# Altium footprint library SMD Inductors.PcbLib: 8 footprints
Each footprint in its own frame and in the unit in brackets; x right, y up, seen from the top. Pads: shape width x height; smd on the part's side, far side on the other; paste and mask are expansions set on the pad; w line width, h text height; cw(c..) or ccw(c..) is an arc to the next point about the centre after c.
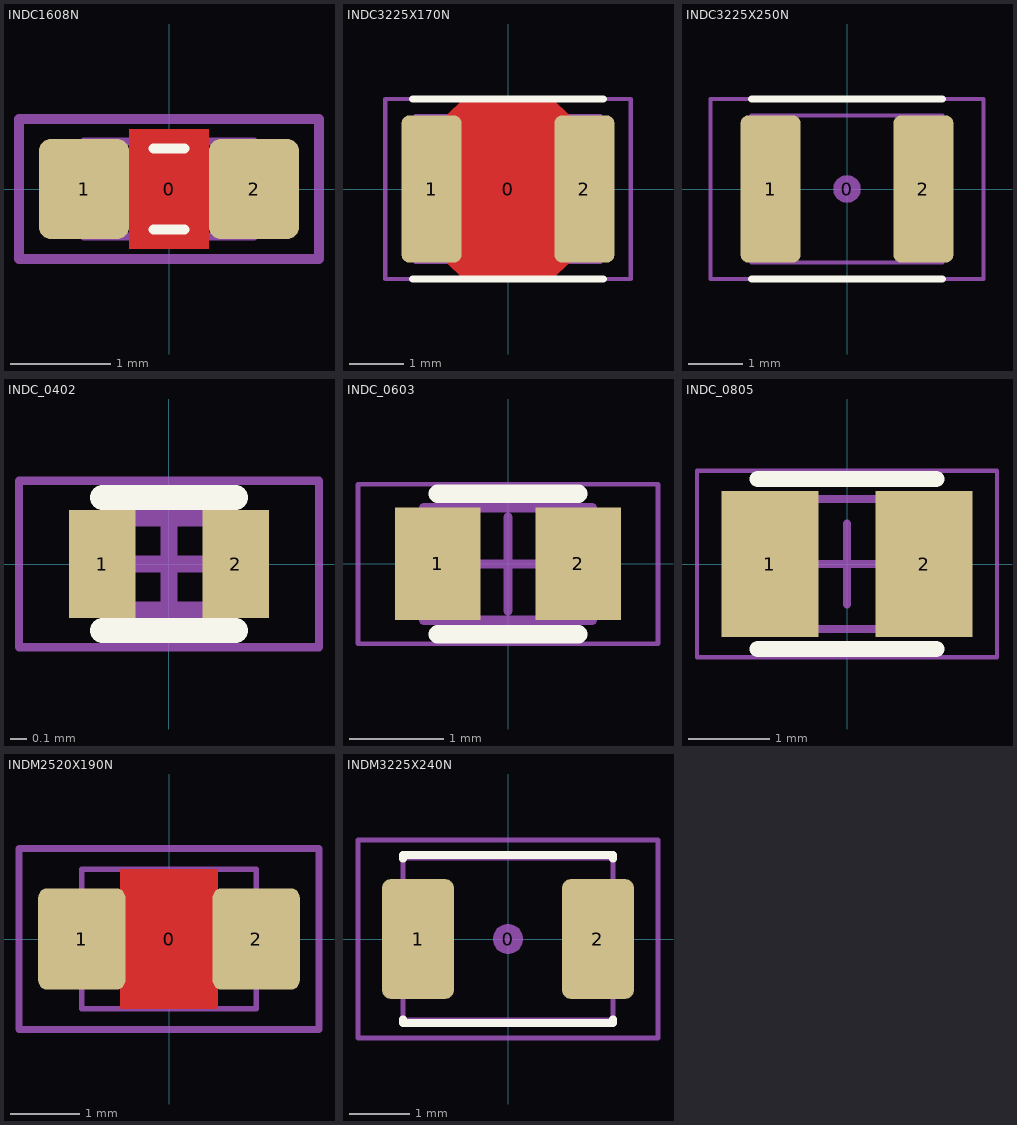
[diagram p0: the footprints below, top view; thin cyan lines are the x and y axes]

## INDC1608N [mm] "Chip bead, Body 1.6x0.8mm, 0603, IPC Medium Density"
height 0.8
pads (3):
  round 0.254 on Mech15: 0(0,0)
  rrect25% 0.9x1 smd: 1(-0.85,0) 2(0.85,0)
Top Layer:
  pour cut-out: -0.4,0.6 0.4,0.6 0.4,-0.6 -0.4,-0.6
Top Overlay:
  lines w0.102: -0.152,-0.406 0.152,-0.406 ; -0.152,0.406 0.152,0.406
Mechanical 13:
  lines w0.076: -0.85,-0.475 0.85,-0.475 0.85,0.475 -0.85,0.475 -0.85,-0.475
Mechanical 15:
  lines w0.1: -1.5,-0.7 1.5,-0.7 1.5,0.7 -1.5,0.7 -1.5,-0.7
3D body "INDC1608X80N.step": height 0.79, standoff -0.01, extent -0.8,-0.4 0.8,0.4

## INDC3225X170N [mm] "Chip Inductor, 2-Leads, Body 3.2x2.5mm, IPC Medium Density"
height 1.7
pads (3):
  round 0.508 on Mech15: 0(0,0)
  rrect25% 1.1x2.7 smd: 1(-1.4,0) 2(1.4,0)
Top Layer:
  pour cut-out: -1.125,1.35 -0.825,1.65 0.825,1.65 1.125,1.35 1.125,-1.35 0.825,-1.65 -0.825,-1.65 -1.125,-1.35
Top Overlay:
  lines w0.127: -1.75,-1.651 1.75,-1.651 ; -1.75,1.651 1.75,1.651
Mechanical 13:
  lines w0.05: -1.7,-1.35 1.7,-1.35 1.7,1.35 -1.7,1.35 -1.7,-1.35
Mechanical 15:
  lines w0.076: -2.25,-1.65 -2.25,1.65 2.25,1.65 2.25,-1.65 -2.25,-1.65
3D body "INDC3225X170N.STEP": height 1.7, standoff 0, extent -1.71,-1.36 1.71,1.36

## INDC3225X250N [mm] "Chip Inductor, 2-Leads, Body 3.2x2.5mm, IPC Medium Density"
height 2.7
pads (3):
  round 0.508 on Mech15: 0(0,0)
  rrect25% 1.1x2.7 smd: 1(-1.4,0) 2(1.4,0)
Top Overlay:
  lines w0.127: -1.75,-1.651 1.75,-1.651 ; -1.75,1.651 1.75,1.651
Mechanical 13:
  lines w0.076: -1.75,-1.35 -1.75,1.35 1.75,1.35 1.75,-1.35 -1.75,-1.35
Mechanical 15:
  lines w0.076: -2.5,-1.65 -2.5,1.65 2.5,1.65 2.5,-1.65 -2.5,-1.65
3D body "INDC3225X250N.STEP": height 2.7, standoff 0, extent -1.7,-1.35 1.7,1.35

## INDC_0402 [mm] "Chip Inductor, 2-Leads, Body 1,00x0,55mm, IPC Medium Density"
height 0.6
pads (2):
  rect 0.4x0.65 smd: 1(-0.4,0) 2(0.4,0)
Top Overlay:
  lines w0.15: -0.4,-0.4 0.4,-0.4 ; -0.4,0.4 0.4,0.4
Mechanical 13:
  lines w0.1: -0.5,-0.275 -0.5,0.275 0.5,0.275 0.5,-0.275 -0.5,-0.275
Mechanical 15:
  lines w0.05: -0.9,-0.5 -0.9,0.5 0.9,0.5 0.9,-0.5 -0.9,-0.5
  lines w0.1: -0.275,0 0.275,0 ; 0,-0.275 0,0.275
3D body "Coilcraft-0402ME.step": height 0.51, standoff -0.01, extent -0.51,-0.381 0.51,0.381

## INDC_0603 [mm] "Chip Inductor, 2-Leads, Body 1,60x1,00mm, IPC Medium Density"
height 1
pads (2):
  rect 0.91x1.2 smd: 1(-0.75,0) 2(0.75,0)
Top Overlay:
  lines w0.2: -0.75,-0.75 0.75,-0.75 ; -0.75,0.75 0.75,0.75
Mechanical 13:
  lines w0.1: -0.9,-0.6 0.9,-0.6 0.9,0.6 -0.9,0.6 -0.9,-0.6
Mechanical 15:
  lines w0.05: -1.6,-0.85 1.6,-0.85 1.6,0.85 -1.6,0.85 -1.6,-0.85
  lines w0.1: -0.5,0 0.5,0 ; 0,-0.5 0,0.5
3D body "Coilcraft-0603ME.step": height 0.83, standoff -0.01, extent -0.9,-0.589 0.9,0.589

## INDC_0805 [mm] "Chip Inductor, 2-Leads, Body 2,15x1,50mm, IPC Medium Density"
height 1.3
pads (2):
  rect 1.2x1.8 smd: 1(-0.95,0) 2(0.95,0)
Top Overlay:
  lines w0.2: -1.1,-1.05 1.1,-1.05 ; -1.1,1.05 1.1,1.05
Mechanical 13:
  lines w0.1: -1.15,-0.8 1.15,-0.8 1.15,0.8 -1.15,0.8 -1.15,-0.8
Mechanical 15:
  lines w0.05: -1.85,-1.15 1.85,-1.15 1.85,1.15 -1.85,1.15 -1.85,-1.15
  lines w0.1: -0.5,0 0.5,0 ; 0,-0.5 0,0.5
3D body "Coilcraft-0805HS.step": height 1.44, standoff -0.01, extent -1.09,-0.759 1.09,0.759

## INDM2520X190N [mm] "Inductor, molded body 2.5x2.0mm"
height 1.9
pads (3):
  round 0.508 on Mech15: 0(0,0)
  rrect20% 1.25x1.45 smd: 1(-1.25,0) 2(1.25,0)
Top Layer:
  pour cut-out: -0.7,1 0.7,1 0.7,-1 -0.7,-1
Mechanical 13:
  lines w0.076: -1.25,-1 -1.25,1 1.25,1 1.25,-1 -1.25,-1
Mechanical 15:
  lines w0.1: -2.15,-1.3 -2.15,1.3 2.15,1.3 2.15,-1.3 -2.15,-1.3
3D body "INDM2520X190N.STEP": height 1.79, standoff -0.01, extent -1.25,-1 1.25,1

## INDM3225X240N [mm] "Molded Inductor, 2-Leads, Body 3.2x2.5mm, IPC Medium Density"
height 2.4
pads (3):
  round 0.508 on Mech15: 0(0,0)
  rrect25% 1.2x2 smd: 1(-1.5,0) 2(1.5,0)
Top Overlay:
  lines w0.127: -1.75,-1.338 -1.75,-1.4 1.75,-1.4 1.75,-1.338 ; -1.75,1.338 -1.75,1.4 1.75,1.4 1.75,1.338
Mechanical 13:
  lines w0.076: -1.75,-1.35 1.75,-1.35 1.75,1.35 -1.75,1.35 -1.75,-1.35
Mechanical 15:
  lines w0.076: -2.5,-1.65 2.5,-1.65 2.5,1.65 -2.5,1.65 -2.5,-1.65
3D body "INDM3225X240N.STEP": height 2.4, standoff 0, extent -1.79,-1.35 1.79,1.35